# EAGLE library part BATTERY-CASE-3AA-1 (library QuantumOptics)
Battery holder, 3 AA, Memory Protection Devices Inc, BK-1280-PC6
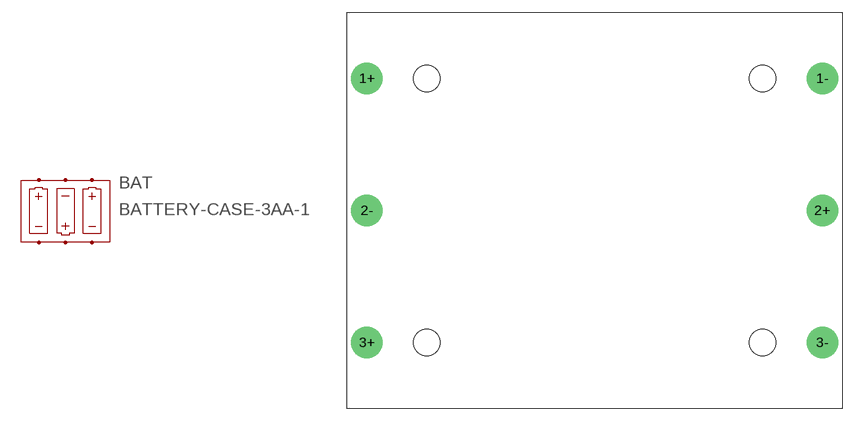
[diagram p105: symbol with the pads of BATTERY-CASE-3AA-1; footprint BATTERY-CASE-3AA-1]

Designator prefix BAT

## BATTERY-CASE-3AA-1  [BATTERY-CASE-3AA-1]
1+  1+
1-  1-
2+  2+
2-  2-
3+  3+
3-  3-

## Footprint BATTERY-CASE-3AA-1 (pad centres in mm)
Battery holder, 3 AA, Memory Protection Devices Inc, BK-1280-PC6
drill 1.321 pad 3.81: 1+ -27.6,16; 1- 27.6,16; 2+ 27.6,0; 2- -27.6,0; 3+ -27.6,-16; 3- 27.6,-16
hole 3.175 at -20.35,16
hole 3.175 at -20.35,-16
hole 3.175 at 20.35,-16
hole 3.175 at 20.35,16